# EAGLE library part MIC94070 (library BaseApp)
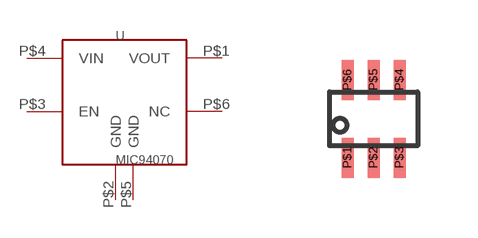
[diagram p142: symbol with the pads of SC-70-6PIN; footprint SC-70-6PIN]

Designator prefix -

## MIC94070 (DIGIKEY: 576-3006-1-ND; PRICE_PER_UNIT: 0.87)  [SC-70-6PIN]
P$1  VOUT
P$2  GND
P$3  EN
P$4  VIN
P$5  GND
P$6  NC

## Footprint SC-70-6PIN (pad centres in mm)
smd 0.3 x 1: P$1 -0.65,-0.975; P$2 0,-0.975; P$3 0.65,-0.975; P$4 0.65,0.975; P$5 0,0.975; P$6 -0.65,0.975